# Altium footprint library TRANS_CSD25402Q3A.PcbLib: 1 footprints
Each footprint in its own frame and in the unit in brackets; x right, y up, seen from the top. Pads: shape width x height; smd on the part's side, far side on the other; paste and mask are expansions set on the pad; w line width, h text height; cw(c..) or ccw(c..) is an arc to the next point about the centre after c.
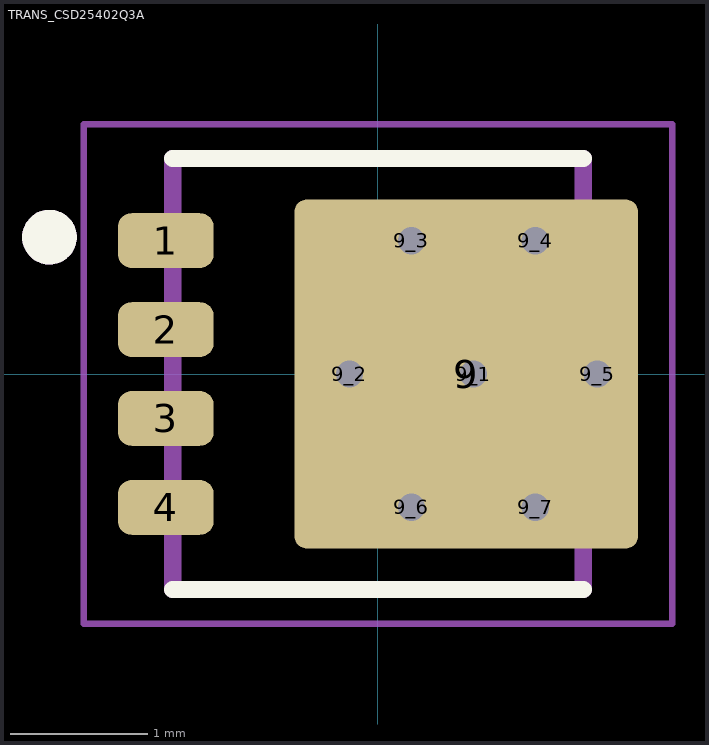
[diagram p0: the footprint, top view; thin cyan lines are the x and y axes]

## TRANS_CSD25402Q3A [mm]
pads (12):
  rrect50% 0.7x0.4 smd paste-1 mask+0: 1(-1.55,0.975) 2(-1.55,0.325) 3(-1.55,-0.325) 4(-1.55,-0.975)
  rrect7% 2.51x2.55 smd paste-2 mask+0: 9(0.645,0)
  round 0.35 hole 0.2 mask+0: 9_1(0.697,0) 9_2(-0.208,0) 9_3(0.245,0.975) 9_4(1.15,0.975) 9_5(1.602,0) 9_6(0.245,-0.975) 9_7(1.15,-0.975)
Top Overlay:
  circle w0.2: c-2.4,1 r0.1
  lines w0.127: -1.5,-1.575 1.5,-1.575 ; -1.5,1.575 1.5,1.575
Top Paste:
  drawing of 12 lines, arcs and shapes, not listed
Top Solder:
  drawing of 5 lines, arcs and shapes, not listed
Mechanical 13:
  circle w0.2: c-2.4,1 r0.1
  lines w0.127: -1.5,-1.575 1.5,-1.575 1.5,1.575 -1.5,1.575 -1.5,-1.575
Mechanical 15:
  lines w0.05: -2.15,-1.825 2.15,-1.825 2.15,1.825 -2.15,1.825 -2.15,-1.825
3D body "step_temp.STEP": height 0.9, standoff 0, extent -1.65,-1.725 1.65,1.725